# EAGLE library part MCP2542FD-H/SN (library graftel-internal-ic)
None
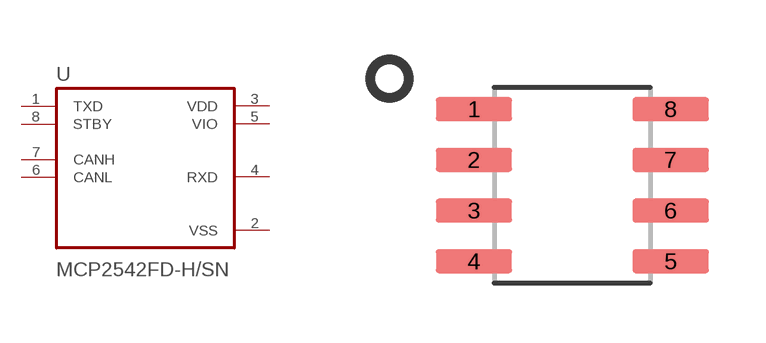
[diagram p70: symbol with the pads of SOIC127P600X175-8N; footprint SOIC127P600X175-8N]

Designator prefix U

## MCP2542FD-H/SN (AVAILABILITY: Unavailable; DESCRIPTION: CAN Standby 3.3V/5V 8-Pin SOIC N Tube; MF: Microchip; MP: MCP2542FD-H/SN; PACKAGE: SO-8 Microchip; PRICE: None)  [SOIC127P600X175-8N]
1  TXD  in
2  VSS  pwr
3  VDD  pwr
4  RXD  out
5  VIO  pwr
6  CANL
7  CANH
8  STBY  in

## Footprint SOIC127P600X175-8N (pad centres in mm)
smd 1.91 x 0.6: 1 -2.46,1.905; 2 -2.46,0.635; 3 -2.46,-0.635; 4 -2.46,-1.905; 5 2.46,-1.905; 6 2.46,-0.635; 7 2.46,0.635; 8 2.46,1.905